# Altium schematic symbol library DMN6040SSDQ-13.SchLib: 1 symbol
Pins are listed as number, name and electrical type; pins without a type are passive.

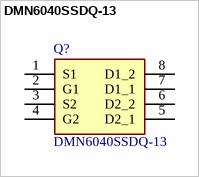
[diagram p0: symbol DMN6040SSDQ-13]

## DMN6040SSDQ-13
designator Q?
MOSFET 60V Dual N-Ch FET 40mOhm 10V 5.0A; Manufacturer_Name: Diodes Incorporated; Geometry.Height: 1.7mm; Mouser Part Number: 621-DMN6040SSDQ-13; Mouser Price/Stock: https://www.mouser.co.uk/ProductDetail/Diodes-Incorporated/DMN6040SSDQ-13?qs=g6T3zOPhKMD000wsrUVLxw%3D%3D; Manufacturer_Part_Number: DMN6040SSDQ-13; Datasheet Link: https://www.diodes.com/assets/Datasheets/DMN6040SSDQ.pdf
footprint SOIC127P600X170-8N
pins: 1 S1, 2 G1, 3 S2, 4 G2, 5 D2_1, 6 D2_2, 7 D1_1, 8 D1_2